# EAGLE library part DACX311_ALT (library LinnesLab-DigitalIC)
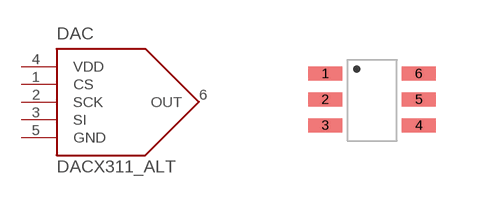
[diagram p7: symbol with the pads of SC-70-6; footprint SC-70-6]

Designator prefix DAC

## DACX311_ALT  [SC-70-6]
1  CS
2  SCK
3  SI
4  VDD
5  GND
6  OUT

## Footprint SC-70-6 (pad centres in mm)
smd 0.85 x 0.35: 1 -1.168,0.61; 2 -1.168,-0.038; 3 -1.168,-0.686; 4 1.168,-0.686; 5 1.168,-0.038; 6 1.168,0.61